# EAGLE library part SZH-ENBQ-003 (library SLock)
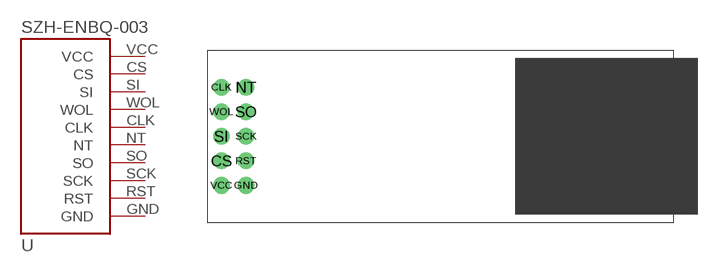
[diagram p1: symbol with the pads of SZH-ENBQ-003; footprint SZH-ENBQ-003]

Designator prefix -

## SZH-ENBQ-003  [SZH-ENBQ-003]
CLK  CLK
CS  CS
GND  GND
NT  NT
RST  RST
SCK  SCK
SI  SI
SO  SO
VCC  VCC
WOL  WOL

## Footprint SZH-ENBQ-003 (pad centres in mm)
drill 1.143: CLK -1.27,5.08; CS -1.27,-2.54; GND 1.27,-5.08; NT 1.27,5.08; RST 1.27,-2.54; SCK 1.27,0; SI -1.27,0; SO 1.27,2.54; VCC -1.27,-5.08; WOL -1.27,2.54